# EAGLE library part USI (library bt_avr)
AVR USI connector Exposes pins for SPI, I2C, Serial, VCC, GND plus an extra
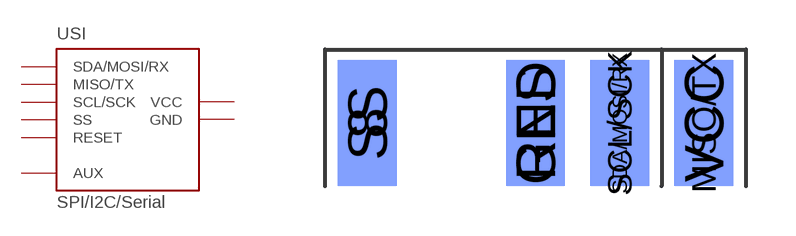
[diagram p5: symbol with the pads of USI_2LAYER; footprint USI_2LAYER]

Designator prefix X

## USI  [USI_2LAYER]
8  AUX
GND  GND  pwr
MISO/TX  MISO/TX
RES  RESET
SCL/SCK  SCL/SCK
SDA/MOSI/RX  SDA/MOSI/RX
SS  SS
VCC  VCC  pwr

## Footprint USI_2LAYER (pad centres in mm)
smd 1.778 x 3.81 bottom: 8 -5.08,0; GND 0,0; SDA/MOSI/RX 2.54,0; VCC 5.08,0
smd 1.778 x 3.81: MISO/TX 5.08,0; RES 0,0; SCL/SCK 2.54,0; SS -5.08,0